# EAGLE library part NCP133AMXADJTCG (library MOTO_LIB)
LDO, adjustable output
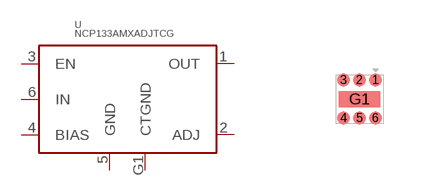
[diagram p16: symbol with the pads of DFN1_2X1_2PS0_4P4; footprint DFN1_2X1_2PS0_4P4]

Designator prefix U

## NCP133AMXADJTCG (MPN: NCP133AMXADJTCG; SUPPLIER: ON SEMI)  [DFN1_2X1_2PS0_4P4]
1  OUT
2  ADJ
3  EN
4  BIAS
5  GND
6  IN
G1  CTGND

## Footprint DFN1_2X1_2PS0_4P4 (pad centres in mm)
smd 0.32 x 0.32: 1 0.4,0.475; 2 0,0.475; 3 -0.4,0.475; 4 -0.4,-0.475; 5 0,-0.475; 6 0.4,-0.475
smd 1.04 x 0.4: G1 0,0